# EAGLE library part WE-750313457 (library nixiemisc)
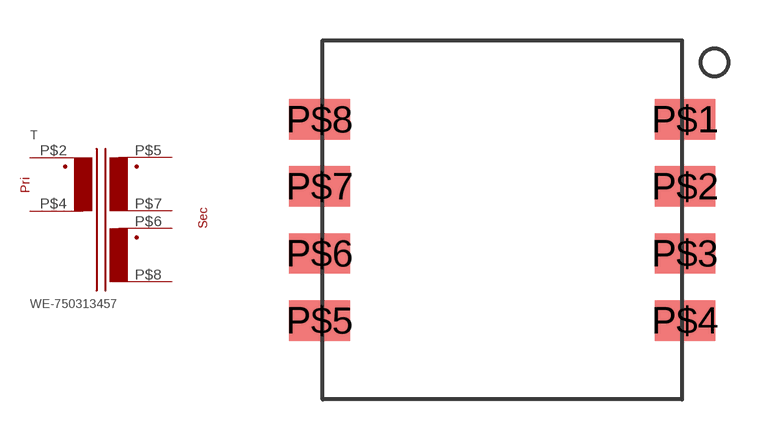
[diagram p19: symbol with the pads of WE-750313457; footprint WE-750313457]

Designator prefix T

## WE-750313457  [WE-750313457]
P$2  2  pas
P$4  4  pas
P$5  5  pas
P$6  6  pas
P$7  7  pas
P$8  8  pas

## Footprint WE-750313457 (pad centres in mm)
smd 2.25 x 1.5: P$1 6.782,3.734; P$2 6.782,1.245; P$3 6.782,-1.245; P$4 6.782,-3.734; P$5 -6.782,-3.734; P$6 -6.782,-1.245; P$7 -6.782,1.245; P$8 -6.782,3.734